# EAGLE library part ESP-WROOM02 (library we-chip)
Espressif ESP-WROOM-02 / ESP-12 ESP8266 WiFi/WLAN Module Espressif ESP-WROOM-02 AI-Thinker ESP-12
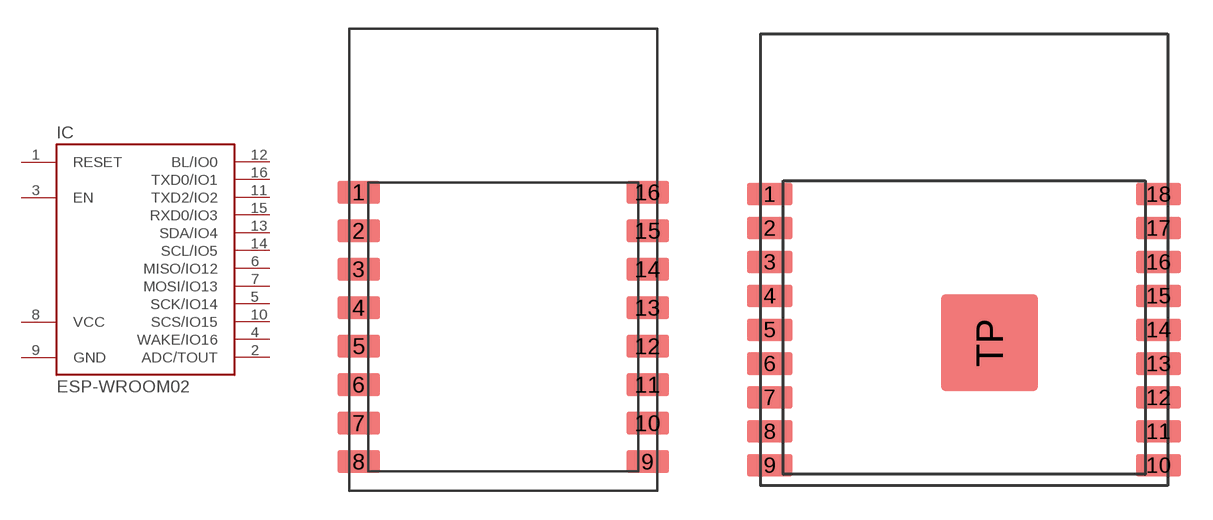
[diagram p24: symbol with the pads of ESP-12; footprints ESP-12, ESP-WROOM02]

Designator prefix IC

## ESP-WROOM02-ESP12  [ESP-12]
1  RESET
2  ADC/TOUT
3  EN
4  WAKE/IO16
5  SCK/IO14
6  MISO/IO12
7  MOSI/IO13
8  VCC  pwr
9  GND  pwr
10  SCS/IO15
11  TXD2/IO2
12  BL/IO0
13  SDA/IO4
14  SCL/IO5
15  RXD0/IO3
16  TXD0/IO1

## ESP-WROOM02  [ESP-WROOM02]
1  VCC  pwr
2  EN
3  SCK/IO14
4  MISO/IO12
5  MOSI/IO13
6  SCS/IO15
7  TXD2/IO2
8  BL/IO0
9  GND  pwr
10  SDA/IO4
11  RXD0/IO3
12  TXD0/IO1
13  GND  pwr
14  SCL/IO5
15  RESET
16  ADC/TOUT
17  WAKE/IO16
18  GND  pwr
TP  GND  pwr

## Footprint ESP-12 (pad centres in mm)
smd 2.2 x 1.2: 1 -7.5,4.5; 2 -7.5,2.5; 3 -7.5,0.5; 4 -7.5,-1.5; 5 -7.5,-3.5; 6 -7.5,-5.5; 7 -7.5,-7.5; 8 -7.5,-9.5; 9 7.5,-9.5; 10 7.5,-7.5; 11 7.5,-5.5; 12 7.5,-3.5; 13 7.5,-1.5; 14 7.5,0.5; 15 7.5,2.5; 16 7.5,4.5

## Footprint ESP-WROOM02 (pad centres in mm)
smd 2 x 1: 1 -8.6,1.9; 2 -8.6,0.4; 3 -8.6,-1.1; 4 -8.6,-2.6; 5 -8.6,-4.1; 6 -8.6,-5.6; 7 -8.6,-7.1; 8 -8.6,-8.6; 9 -8.6,-10.1; 10 8.6,-10.1; 11 8.6,-8.6; 12 8.6,-7.1; 13 8.6,-5.6; 14 8.6,-4.1; 15 8.6,-2.6; 16 8.6,-1.1; 17 8.6,0.4; 18 8.6,1.9
smd 4.3 x 4.3: TP 1.12,-4.68